# EAGLE library part ACPL-227 (library avago-acpl)
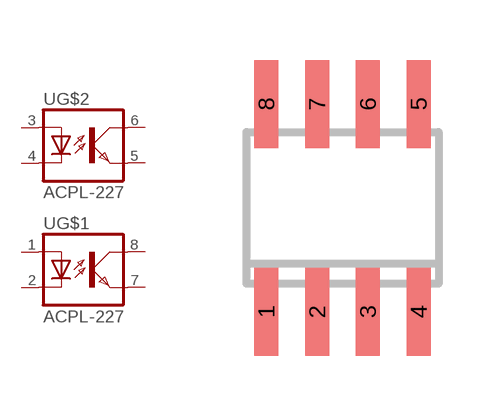
[diagram p0: symbol with the pads of SO8; footprint SO8]

Designator prefix U; gates G$1=OK G$2=OK

## ACPL-227  [SO8]
1  G$1:A  pas
2  G$1:C  pas
3  G$2:A  pas
4  G$2:C  pas
5  G$2:EMIT  pas
6  G$2:COL  pas
7  G$1:EMIT  pas
8  G$1:COL  pas

## Footprint SO8 (pad centres in mm)
smd 0.6 x 2.2: 1 -1.905,-2.6; 2 -0.635,-2.6; 3 0.635,-2.6; 4 1.905,-2.6; 5 1.905,2.6; 6 0.635,2.6; 7 -0.635,2.6; 8 -1.905,2.6